# EAGLE library part SPU0410LR5H-QB (library lightmeter)
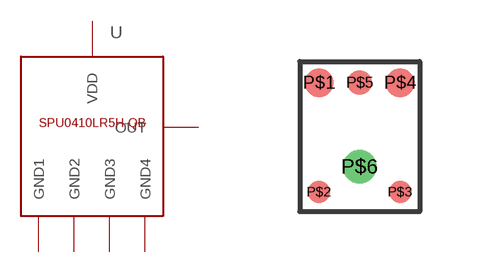
[diagram p8: symbol with the pads of SPU0410LR5H-QB; footprint SPU0410LR5H-QB]

Designator prefix -

## SPU0410LR5H-QBSPU0410LRSH-QB  [SPU0410LR5H-QB]
P$1  OUT
P$2  GND1
P$3  GND2
P$4  VDD
P$5  GND3
P$6  GND4

## Footprint SPU0410LR5H-QB (pad centres in mm)
smd 0.723 x 0.723: P$1 -1.015,2.103; P$4 1.015,2.103
smd 0.562 x 0.562: P$2 -1.015,-0.634; P$3 1.015,-0.634
smd 0.612 x 0.612: P$5 0,2.103
drill 0.33: P$6 0,0